# Altium integrated library TI Data Converters Digital to Analog Converter.IntLib: 1533 symbols (part 66 of 99)
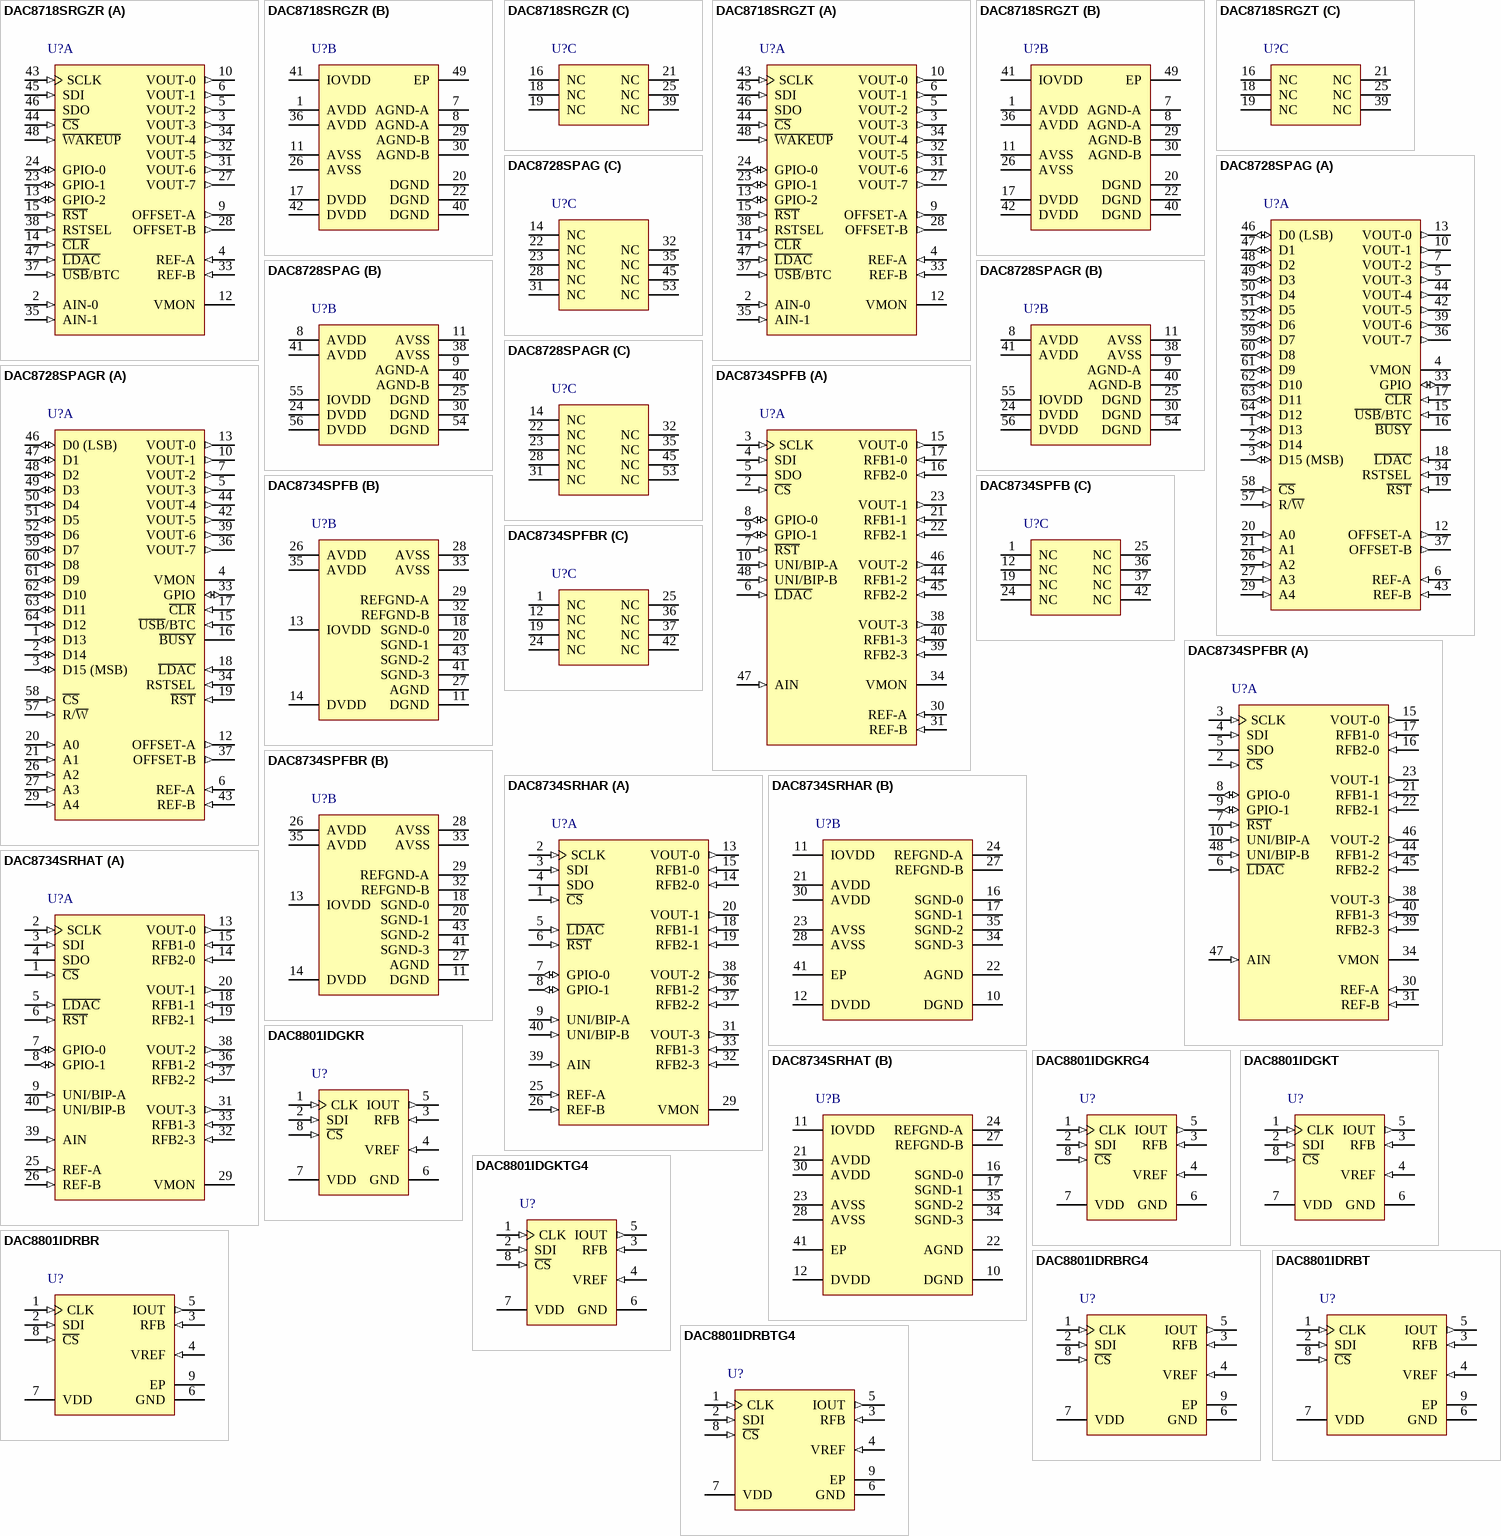
[diagram p138: symbols DAC8718SRGZR to DAC8801IDRBTG4]

## DAC8734SPFBR
designator U?
16-Bit Quad High Accuracy +/- 16.5 V Output DAC, -40 to 105 degC, 48-pin QFP (PFB48), Green (RoHS & no Sb/Br); Manufacturer: Texas Instruments; PartNumber: DAC8734SPFBR; DAC Channels: 4; DNL(Max)(+/-LSB): 1; Interface: Serial SPI; Power Consumption(Typ)(mW): 290; Resolution(Bits): 16; Settling Time(us): 6; SubFamily: Precision DAC (=<10MSPS); DatasheetVersion: SBAS465A; PackageVersion: 4073176/B, 10/1996; PackageReference: PFB48; PackageDescription: 48-Pin Plastic Flat Pack, Body 7 x 7 mm, Pitch 0.5 mm; Supplier 1: Digi-Key; Supplier Part Number 1: DAC8734SPFBR-ND; Supplier 2: Mouser; Supplier Part Number 2: 595-DAC8734SPFBR; Eco-Plan: Green (RoHS & no Sb/Br); INL(Max)(+/-LSB): 1; Mounting Technology: Surface Mount; Code_JEDEC: MS-026; ComponentLink1Description: Manufacturer URL; ComponentLink1URL: http://www.ti.com/; ComponentLink2Description: Datasheet; ComponentLink2URL: http://www.ti.com/general/docs/lit/getliterature.tsp?genericPartNumber=DAC8734&fileType=pdf; ComponentLink3Description: Package Specification; ComponentLink3URL: http://www.ti.com/lit/ml/mtqf019a/mtqf019a.pdf
footprint TI-PFB48_N (QFP, 48-Leads, Body 7x7mm, Pitch 0.5mm, IPC Medium Density)
footprint TI-PFB48_L (QFP, 48-Leads, Body 7x7mm, Pitch 0.5mm, IPC High Density)
footprint TI-PFB48_M (QFP, 48-Leads, Body 7x7mm, Pitch 0.5mm, IPC Low Density)
part A pins: 2 ~{CS} (in) "SPI bus chip select input (active low). Data are not clocked into the SPI shift register unless C\S\ is low. When C\S\ is high, SDO is in a high-impedance state.", 3 SCLK (in) "SPI bus clock", 4 SDI (in) "SPI bus input data", 5 SDO (hiz) "SPI output data", 6 ~{LDAC} (in) "Load DAC latch control input (active low). When L\D\A\C\ is low, the DAC latch is transparent and the contents of the Input Data Register are transferred to it. The DAC output changes to the corresponding level (See Datasheet)", 7 ~{RST} (in) "Reset input (active low). Logic low on this pin resets the input registers and DACs to the values defined by the UNI/BIP pins, and sets the Gain Register and Zero Register to default values.", 8 GPIO-0 (io) "General-purpose digital input/output 0. This pin is a bidirectional, digital input/output, and has an open-drain output. A 10kO pull-up resistor to IOVDD is needed when this pin is used as an output. See the GPIO Pins (See Datasheet)", 9 GPIO-1 (io) "General-purpose digital input/output 1. This pin is a bidirectional, digital input/output, and has an open-drain output. A 10kO pull-up resistor to IOVDD is needed when this pin is used as an output. See the GPIO Pins (See Datasheet)", 10 UNI/BIP-A (in) "Output mode selection of group A (DAC-0 and DAC-1). When UNI/BIP-A is tied to IOVDD, group A is in unipolar output mode; when tied to DGND, group A is in bipolar output mode. The input data written to the DAC are straight (See Datasheet)", 15 VOUT-0 (out) "DAC-0 output", 16 RFB2-0 (in) "DAC-0 RFB2 feedback", 17 RFB1-0 (in) "DAC-0 RFB1 feedback", 21 RFB1-1 (in) "DAC-1 RFB1 feedback", 22 RFB2-1 (in) "DAC-1 RFB2 feedback", 23 VOUT-1 (out) "DAC-1 output", 30 REF-A (in) "Group A (DAC-0, DAC-1) reference input", 31 REF-B (in) "Group B (DAC-2, DAC-3) reference input", 34 VMON (hiz) "Analog monitor output. This pin is either in Hi-Z status, or connected to one of the four DAC outputs or AIN, depending on the content of the Monitor Register.", 38 VOUT-3 (out) "DAC-3 output", 39 RFB2-3 (in) "DAC-3 RFB2 feedback", 40 RFB1-3 (in) "DAC-3 RFB1 feedback", 44 RFB1-2 (in) "DAC-2 RFB1 feedback", 45 RFB2-2 (in) "DAC-2 RFB2 feedback", 46 VOUT-2 (out) "DAC-2 output", 47 AIN (in) "Auxiliary analog input. Connected to the analog monitor mux.", 48 UNI/BIP-B (in) "Output mode selection of group B (DAC-2 and DAC-3). When UNI/BIP-A is tied to IOVDD, group B is in unipolar output mode; when tied to DGND, group B is in bipolar output mode. The input data written to the DAC are straight (See Datasheet)"
part B pins: 11 DGND (power) "Digital ground", 13 IOVDD (power) "Interface power", 14 DVDD (power) "Digital power", 18 SGND-0 (power) "DAC-0 signal ground. Connected to REFGND-A.", 20 SGND-1 (power) "DAC-1 signal ground. Connected to REFGND-A.", 26 AVDD (power) "Positive analog power supply", 27 AGND (power) "Analog ground", 28 AVSS (power) "Negative analog power supply", 29 REFGND-A (power) "Reference REF-A ground. Connect to AGND.", 32 REFGND-B (power) "Reference REF-B ground. Connect to AGND.", 33 AVSS (power) "Negative analog power supply", 35 AVDD (power) "Positive analog power supply", 41 SGND-3 (power) "DAC-3 signal ground. Connected to REFGND-B.", 43 SGND-2 (power) "DAC-2 signal ground. Connected to REFGND-B."
part C pins: 1 NC "Not connected", 12 NC "Not connected", 19 NC "Not connected", 24 NC "Not connected", 25 NC "Not connected", 36 NC "Not connected", 37 NC "Not connected", 42 NC "Not connected"

## DAC8734SRHAR
designator U?
16-Bit Quad High Accuracy +/- 16.5 V Output DAC, -40 to 105 degC, 40-pin QFN (RHA40), Green (RoHS & no Sb/Br); Manufacturer: Texas Instruments; PartNumber: DAC8734SRHAR; DAC Channels: 4; DNL(Max)(+/-LSB): 1; Interface: Serial SPI; Power Consumption(Typ)(mW): 290; Resolution(Bits): 16; Settling Time(us): 6; SubFamily: Precision DAC (=<10MSPS); DatasheetVersion: SBAS465A; PackageVersion: 4204276/E, 06/2011; PackageReference: RHA40-4500X4500TP; PackageDescription: 40-Pin Plastic Quad Flatpack No-Lead, Body 6 x 6 mm, Pitch 0.5 mm; Supplier 1: Digi-Key; Supplier Part Number 1: DAC8734SRHAR-ND; Supplier 2: Mouser; Supplier Part Number 2: 595-DAC8734SRHAR; Eco-Plan: Green (RoHS & no Sb/Br); INL(Max)(+/-LSB): 1; Mounting Technology: Surface Mount; Code_JEDEC: MO-220; ComponentLink1Description: Manufacturer URL; ComponentLink1URL: http://www.ti.com/; ComponentLink2Description: Datasheet; ComponentLink2URL: http://www.ti.com/general/docs/lit/getliterature.tsp?genericPartNumber=DAC8734&fileType=pdf; ComponentLink3Description: Package Specification; ComponentLink3URL: http://www.ti.com/litv/pdf/mpqf135c
footprint TI-RHA40-4500X4500TP_V (QFN, 40-Leads, Body 6x6mm, Pitch 0.5mm, Thermal Pad 4.5x4.5mm)
part A pins: 1 ~{CS} (in) "SPI bus chip select input (active low). Data are not clocked into the SPI shift register unless C\S\ is low. When C\S\ is high, SDO is in a high-impedance state.", 2 SCLK (in) "SPI bus clock", 3 SDI (in) "SPI bus input data", 4 SDO (hiz) "SPI output data", 5 ~{LDAC} (in) "Load DAC latch control input (active low). When L\D\A\C\ is low, the DAC latch is transparent and the contents of the Input Data Register are transferred to it. The DAC output changes to the corresponding level (See Datasheet)", 6 ~{RST} (in) "Reset input (active low). Logic low on this pin resets the input registers and DACs to the values defined by the UNI/BIP pins, and sets the Gain Register and Zero Register to default values.", 7 GPIO-0 (io) "General-purpose digital input/output 0. This pin is a bidirectional, digital input/output, and has an open-drain output. A 10kohm pull-up resistor to IOVDD is needed when this pin is used as an output. See the GPIO Pins (See Datasheet)", 8 GPIO-1 (io) "General-purpose digital input/output 1. This pin is a bidirectional, digital input/output, and has an open-drain output. A 10kohm pull-up resistor to IOVDD is needed when this pin is used as an output. See the GPIO Pins (See Datasheet)", 9 UNI/BIP-A (in) "Output mode selection of group A (DAC-0 and DAC-1). When UNI/BIP-A is tied to IOVDD, group A is in unipolar output mode; when tied to DGND, group A is in bipolar output mode. The input data written to the DAC are straight (See Datasheet)", 13 VOUT-0 (out) "DAC-0 output", 14 RFB2-0 (in) "DAC-0 RFB2 feedback", 15 RFB1-0 (in) "DAC-0 RFB1 feedback", 18 RFB1-1 (in) "DAC-1 RFB1 feedback", 19 RFB2-1 (in) "DAC-1 RFB2 feedback", 20 VOUT-1 (out) "DAC-1 output", 25 REF-A (in) "Group A (DAC-0, DAC-1) reference input", 26 REF-B (in) "Group B (DAC-2, DAC-3) reference input", 29 VMON (hiz) "Analog monitor output. This pin is either in Hi-Z status, or connected to one of the four DAC outputs or AIN, depending on the content of the Monitor Register.", 31 VOUT-3 (out) "DAC-3 output", 32 RFB2-3 (in) "DAC-3 RFB2 feedback", 33 RFB1-3 (in) "DAC-3 RFB1 feedback", 36 RFB1-2 (in) "DAC-2 RFB1 feedback", 37 RFB2-2 (in) "DAC-2 RFB2 feedback", 38 VOUT-2 (out) "DAC-2 output", 39 AIN (in) "Auxiliary analog input. Connected to the analog monitor mux.", 40 UNI/BIP-B (in) "Output mode selection of group B (DAC-2 and DAC-3). When UNI/BIP-A is tied to IOVDD, group B is in unipolar output mode; when tied to DGND, group B is in bipolar output mode. The input data written to the DAC are straight (See Datasheet)"
part B pins: 10 DGND (power) "Digital ground", 11 IOVDD (power) "Interface power", 12 DVDD (power) "Digital power", 16 SGND-0 (power) "DAC-0 signal ground. Connected to REFGND-A.", 17 SGND-1 (power) "DAC-1 signal ground. Connected to REFGND-A.", 21 AVDD (power) "Positive analog power supply", 22 AGND (power) "Analog ground", 23 AVSS (power) "Negative analog power supply", 24 REFGND-A (power) "Reference REF-A ground. Connect to AGND.", 27 REFGND-B (power) "Reference REF-B ground. Connect to AGND.", 28 AVSS (power) "Negative analog power supply", 30 AVDD (power) "Positive analog power supply", 34 SGND-3 (power) "DAC-3 signal ground. Connected to REFGND-B.", 35 SGND-2 (power) "DAC-2 signal ground. Connected to REFGND-B.", 41 EP (power)

## DAC8734SRHAT
designator U?
16-Bit Quad High Accuracy +/- 16.5 V Output DAC, -40 to 105 degC, 40-pin QFN (RHA40), Green (RoHS & no Sb/Br); Manufacturer: Texas Instruments; PartNumber: DAC8734SRHAT; DAC Channels: 4; DNL(Max)(+/-LSB): 1; Interface: Serial SPI; Power Consumption(Typ)(mW): 290; Resolution(Bits): 16; Settling Time(us): 6; SubFamily: Precision DAC (=<10MSPS); DatasheetVersion: SBAS465A; PackageVersion: 4204276/E, 06/2011; PackageReference: RHA40-4500X4500TP; PackageDescription: 40-Pin Plastic Quad Flatpack No-Lead, Body 6 x 6 mm, Pitch 0.5 mm; Supplier 1: Digi-Key; Supplier Part Number 1: 296-25118-2-ND; Supplier 2: Digi-Key; Supplier Part Number 2: 296-25118-1-ND; Supplier 3: Digi-Key; Supplier Part Number 3: 296-25118-6-ND; Supplier 4: Mouser; Supplier Part Number 4: 595-DAC8734SRHAT; Eco-Plan: Green (RoHS & no Sb/Br); INL(Max)(+/-LSB): 1; Mounting Technology: Surface Mount; Code_JEDEC: MO-220; ComponentLink1Description: Manufacturer URL; ComponentLink1URL: http://www.ti.com/; ComponentLink2Description: Datasheet; ComponentLink2URL: http://www.ti.com/general/docs/lit/getliterature.tsp?genericPartNumber=DAC8734&fileType=pdf; ComponentLink3Description: Package Specification; ComponentLink3URL: http://www.ti.com/litv/pdf/mpqf135c
footprint TI-RHA40-4500X4500TP_V (QFN, 40-Leads, Body 6x6mm, Pitch 0.5mm, Thermal Pad 4.5x4.5mm)
part A pins: 1 ~{CS} (in) "SPI bus chip select input (active low). Data are not clocked into the SPI shift register unless C\S\ is low. When C\S\ is high, SDO is in a high-impedance state.", 2 SCLK (in) "SPI bus clock", 3 SDI (in) "SPI bus input data", 4 SDO (hiz) "SPI output data", 5 ~{LDAC} (in) "Load DAC latch control input (active low). When L\D\A\C\ is low, the DAC latch is transparent and the contents of the Input Data Register are transferred to it. The DAC output changes to the corresponding level (See Datasheet)", 6 ~{RST} (in) "Reset input (active low). Logic low on this pin resets the input registers and DACs to the values defined by the UNI/BIP pins, and sets the Gain Register and Zero Register to default values.", 7 GPIO-0 (io) "General-purpose digital input/output 0. This pin is a bidirectional, digital input/output, and has an open-drain output. A 10kohm pull-up resistor to IOVDD is needed when this pin is used as an output. See the GPIO Pins (See Datasheet)", 8 GPIO-1 (io) "General-purpose digital input/output 1. This pin is a bidirectional, digital input/output, and has an open-drain output. A 10kohm pull-up resistor to IOVDD is needed when this pin is used as an output. See the GPIO Pins (See Datasheet)", 9 UNI/BIP-A (in) "Output mode selection of group A (DAC-0 and DAC-1). When UNI/BIP-A is tied to IOVDD, group A is in unipolar output mode; when tied to DGND, group A is in bipolar output mode. The input data written to the DAC are straight (See Datasheet)", 13 VOUT-0 (out) "DAC-0 output", 14 RFB2-0 (in) "DAC-0 RFB2 feedback", 15 RFB1-0 (in) "DAC-0 RFB1 feedback", 18 RFB1-1 (in) "DAC-1 RFB1 feedback", 19 RFB2-1 (in) "DAC-1 RFB2 feedback", 20 VOUT-1 (out) "DAC-1 output", 25 REF-A (in) "Group A (DAC-0, DAC-1) reference input", 26 REF-B (in) "Group B (DAC-2, DAC-3) reference input", 29 VMON (hiz) "Analog monitor output. This pin is either in Hi-Z status, or connected to one of the four DAC outputs or AIN, depending on the content of the Monitor Register.", 31 VOUT-3 (out) "DAC-3 output", 32 RFB2-3 (in) "DAC-3 RFB2 feedback", 33 RFB1-3 (in) "DAC-3 RFB1 feedback", 36 RFB1-2 (in) "DAC-2 RFB1 feedback", 37 RFB2-2 (in) "DAC-2 RFB2 feedback", 38 VOUT-2 (out) "DAC-2 output", 39 AIN (in) "Auxiliary analog input. Connected to the analog monitor mux.", 40 UNI/BIP-B (in) "Output mode selection of group B (DAC-2 and DAC-3). When UNI/BIP-A is tied to IOVDD, group B is in unipolar output mode; when tied to DGND, group B is in bipolar output mode. The input data written to the DAC are straight (See Datasheet)"
part B pins: 10 DGND (power) "Digital ground", 11 IOVDD (power) "Interface power", 12 DVDD (power) "Digital power", 16 SGND-0 (power) "DAC-0 signal ground. Connected to REFGND-A.", 17 SGND-1 (power) "DAC-1 signal ground. Connected to REFGND-A.", 21 AVDD (power) "Positive analog power supply", 22 AGND (power) "Analog ground", 23 AVSS (power) "Negative analog power supply", 24 REFGND-A (power) "Reference REF-A ground. Connect to AGND.", 27 REFGND-B (power) "Reference REF-B ground. Connect to AGND.", 28 AVSS (power) "Negative analog power supply", 30 AVDD (power) "Positive analog power supply", 34 SGND-3 (power) "DAC-3 signal ground. Connected to REFGND-B.", 35 SGND-2 (power) "DAC-2 signal ground. Connected to REFGND-B.", 41 EP (power)

## DAC8801IDGKR
designator U?
14-Bit, Single Channel, Serial Interface, Multiplying DAC, -40 to 85 degC, 8-pin SOP (DGK8), Green (RoHS & no Sb/Br); Manufacturer: Texas Instruments; PartNumber: DAC8801IDGKR; DAC Channels: 1; DNL(Max)(+/-LSB): 0.5; Interface: Serial SPI; Power Consumption(Typ)(mW): 0.025; Resolution(Bits): 14; SubFamily: Precision DAC (=<10MSPS); DatasheetVersion: SLAS403B; PackageVersion: 4073329/E, 05/2006; PackageReference: DGK8; PackageDescription: 8-Pin Thin Small Outline, Body 3 x 3 mm, Pitch 0.65 mm; Supplier 1: Digi-Key; Supplier Part Number 1: DAC8801IDGKR-ND; Supplier 2: Newark; Supplier Part Number 2: 73J8223; Supplier 3: Mouser; Supplier Part Number 3: 595-DAC8801IDGKR; Eco-Plan: Green (RoHS & no Sb/Br); INL(Max)(+/-LSB): 1; Settling Time(us): 0.5; Mounting Technology: Surface Mount; Code_JEDEC: MO-187; ComponentLink1Description: Manufacturer URL; ComponentLink1URL: http://www.ti.com/; ComponentLink2Description: Datasheet; ComponentLink2URL: http://www.ti.com/general/docs/lit/getliterature.tsp?genericPartNumber=DAC8801&fileType=pdf; ComponentLink3Description: Package Specification; ComponentLink3URL: http://www.ti.com/litv/pdf/mpds028d
footprint TI-DGK8_N (SOP, 8-Leads, Body 3x3mm, Pitch 0.65mm, IPC Medium Density)
footprint TI-DGK8_L (SOP, 8-Leads, Body 3x3mm, Pitch 0.65mm, IPC High Density)
footprint TI-DGK8_M (SOP, 8-Leads, Body 3x3mm, Pitch 0.65mm, IPC Low Density)
pins: 1 CLK (in) "Clock input, positive edge triggered clocks data into shift register", 2 SDI (in) "Serial register input, data loads directly into the shift register MSB first. Extra leading bits are ignored", 3 RFB (in) "Internal matching feedback resistor. Connect to external op amp output.", 4 VREF (in) "DAC reference input pin. Establishes DAC full-scale voltage. Constant input resistance versus code", 5 IOUT (out) "DAC current output. Connects to inverting terminal of external precision I to V op amp.", 6 GND (power) "Analog and digital ground", 7 VDD (power) "Posiitve power supply input. Specified range of operation 2.7 V to 5.5 V", 8 ~{CS} (in) "Chip select, active low digital input. Transfers shift register data to DAC register on rising edge."

## DAC8801IDGKRG4
designator U?
14-Bit, Single Channel, Serial Interface, Multiplying DAC, -40 to 85 degC, 8-pin SOP (DGK8), Green (RoHS & no Sb/Br); Manufacturer: Texas Instruments; PartNumber: DAC8801IDGKRG4; DAC Channels: 1; DNL(Max)(+/-LSB): 0.5; Interface: Serial SPI; Power Consumption(Typ)(mW): 0.025; Resolution(Bits): 14; SubFamily: Precision DAC (=<10MSPS); DatasheetVersion: SLAS403B; PackageVersion: 4073329/E, 05/2006; PackageReference: DGK8; PackageDescription: 8-Pin Thin Small Outline, Body 3 x 3 mm, Pitch 0.65 mm; Supplier 1: Digi-Key; Supplier Part Number 1: DAC8801IDGKRG4-ND; Supplier 2: Mouser; Supplier Part Number 2: 595-DAC8801IDGKRG4; Eco-Plan: Green (RoHS & no Sb/Br); INL(Max)(+/-LSB): 1; Settling Time(us): 0.5; Mounting Technology: Surface Mount; Code_JEDEC: MO-187; ComponentLink1Description: Manufacturer URL; ComponentLink1URL: http://www.ti.com/; ComponentLink2Description: Datasheet; ComponentLink2URL: http://www.ti.com/general/docs/lit/getliterature.tsp?genericPartNumber=DAC8801&fileType=pdf; ComponentLink3Description: Package Specification; ComponentLink3URL: http://www.ti.com/litv/pdf/mpds028d
footprint TI-DGK8_N (SOP, 8-Leads, Body 3x3mm, Pitch 0.65mm, IPC Medium Density)
footprint TI-DGK8_L (SOP, 8-Leads, Body 3x3mm, Pitch 0.65mm, IPC High Density)
footprint TI-DGK8_M (SOP, 8-Leads, Body 3x3mm, Pitch 0.65mm, IPC Low Density)
pins: 1 CLK (in) "Clock input, positive edge triggered clocks data into shift register", 2 SDI (in) "Serial register input, data loads directly into the shift register MSB first. Extra leading bits are ignored", 3 RFB (in) "Internal matching feedback resistor. Connect to external op amp output.", 4 VREF (in) "DAC reference input pin. Establishes DAC full-scale voltage. Constant input resistance versus code", 5 IOUT (out) "DAC current output. Connects to inverting terminal of external precision I to V op amp.", 6 GND (power) "Analog and digital ground", 7 VDD (power) "Posiitve power supply input. Specified range of operation 2.7 V to 5.5 V", 8 ~{CS} (in) "Chip select, active low digital input. Transfers shift register data to DAC register on rising edge."

## DAC8801IDGKT
designator U?
14-Bit, Single Channel, Serial Interface, Multiplying DAC, -40 to 85 degC, 8-pin SOP (DGK8), Green (RoHS & no Sb/Br); Manufacturer: Texas Instruments; PartNumber: DAC8801IDGKT; DAC Channels: 1; DNL(Max)(+/-LSB): 0.5; Interface: Serial SPI; Power Consumption(Typ)(mW): 0.025; Resolution(Bits): 14; SubFamily: Precision DAC (=<10MSPS); DatasheetVersion: SLAS403B; PackageVersion: 4073329/E, 05/2006; PackageReference: DGK8; PackageDescription: 8-Pin Thin Small Outline, Body 3 x 3 mm, Pitch 0.65 mm; Supplier 1: Digi-Key; Supplier Part Number 1: 296-17641-2-ND; Supplier 2: Digi-Key; Supplier Part Number 2: 296-17641-1-ND; Supplier 3: Digi-Key; Supplier Part Number 3: 296-17641-6-ND; Supplier 4: Newark; Supplier Part Number 4: 73J8224; Supplier 5: Mouser; Supplier Part Number 5: 595-DAC8801IDGKT; Eco-Plan: Green (RoHS & no Sb/Br); INL(Max)(+/-LSB): 1; Settling Time(us): 0.5; Mounting Technology: Surface Mount; Code_JEDEC: MO-187; ComponentLink1Description: Manufacturer URL; ComponentLink1URL: http://www.ti.com/; ComponentLink2Description: Datasheet; ComponentLink2URL: http://www.ti.com/general/docs/lit/getliterature.tsp?genericPartNumber=DAC8801&fileType=pdf; ComponentLink3Description: Package Specification; ComponentLink3URL: http://www.ti.com/litv/pdf/mpds028d
footprint TI-DGK8_N (SOP, 8-Leads, Body 3x3mm, Pitch 0.65mm, IPC Medium Density)
footprint TI-DGK8_L (SOP, 8-Leads, Body 3x3mm, Pitch 0.65mm, IPC High Density)
footprint TI-DGK8_M (SOP, 8-Leads, Body 3x3mm, Pitch 0.65mm, IPC Low Density)
pins: 1 CLK (in) "Clock input, positive edge triggered clocks data into shift register", 2 SDI (in) "Serial register input, data loads directly into the shift register MSB first. Extra leading bits are ignored", 3 RFB (in) "Internal matching feedback resistor. Connect to external op amp output.", 4 VREF (in) "DAC reference input pin. Establishes DAC full-scale voltage. Constant input resistance versus code", 5 IOUT (out) "DAC current output. Connects to inverting terminal of external precision I to V op amp.", 6 GND (power) "Analog and digital ground", 7 VDD (power) "Posiitve power supply input. Specified range of operation 2.7 V to 5.5 V", 8 ~{CS} (in) "Chip select, active low digital input. Transfers shift register data to DAC register on rising edge."

## DAC8801IDGKTG4
designator U?
14-Bit, Single Channel, Serial Interface, Multiplying DAC, -40 to 85 degC, 8-pin SOP (DGK8), Green (RoHS & no Sb/Br); Manufacturer: Texas Instruments; PartNumber: DAC8801IDGKTG4; DAC Channels: 1; DNL(Max)(+/-LSB): 0.5; Interface: Serial SPI; Power Consumption(Typ)(mW): 0.025; Resolution(Bits): 14; SubFamily: Precision DAC (=<10MSPS); DatasheetVersion: SLAS403B; PackageVersion: 4073329/E, 05/2006; PackageReference: DGK8; PackageDescription: 8-Pin Thin Small Outline, Body 3 x 3 mm, Pitch 0.65 mm; Supplier 1: Digi-Key; Supplier Part Number 1: DAC8801IDGKTG4-ND; Supplier 2: Mouser; Supplier Part Number 2: 595-DAC8801IDGKTG4; Eco-Plan: Green (RoHS & no Sb/Br); INL(Max)(+/-LSB): 1; Settling Time(us): 0.5; Mounting Technology: Surface Mount; Code_JEDEC: MO-187; ComponentLink1Description: Manufacturer URL; ComponentLink1URL: http://www.ti.com/; ComponentLink2Description: Datasheet; ComponentLink2URL: http://www.ti.com/general/docs/lit/getliterature.tsp?genericPartNumber=DAC8801&fileType=pdf; ComponentLink3Description: Package Specification; ComponentLink3URL: http://www.ti.com/litv/pdf/mpds028d
footprint TI-DGK8_N (SOP, 8-Leads, Body 3x3mm, Pitch 0.65mm, IPC Medium Density)
footprint TI-DGK8_L (SOP, 8-Leads, Body 3x3mm, Pitch 0.65mm, IPC High Density)
footprint TI-DGK8_M (SOP, 8-Leads, Body 3x3mm, Pitch 0.65mm, IPC Low Density)
pins: 1 CLK (in) "Clock input, positive edge triggered clocks data into shift register", 2 SDI (in) "Serial register input, data loads directly into the shift register MSB first. Extra leading bits are ignored", 3 RFB (in) "Internal matching feedback resistor. Connect to external op amp output.", 4 VREF (in) "DAC reference input pin. Establishes DAC full-scale voltage. Constant input resistance versus code", 5 IOUT (out) "DAC current output. Connects to inverting terminal of external precision I to V op amp.", 6 GND (power) "Analog and digital ground", 7 VDD (power) "Posiitve power supply input. Specified range of operation 2.7 V to 5.5 V", 8 ~{CS} (in) "Chip select, active low digital input. Transfers shift register data to DAC register on rising edge."

## DAC8801IDRBR
designator U?
14-Bit, Single Channel, Serial Interface, Multiplying DAC, -40 to 85 degC, 8-pin SON (DRB8), Green (RoHS & no Sb/Br); Manufacturer: Texas Instruments; PartNumber: DAC8801IDRBR; DAC Channels: 1; DNL(Max)(+/-LSB): 0.5; Interface: Serial SPI; Power Consumption(Typ)(mW): 0.025; Resolution(Bits): 14; SubFamily: Precision DAC (=<10MSPS); DatasheetVersion: SLAS403B; PackageVersion: 4203482-2/K, 06/2012; PackageReference: DRB8-1750X1500TP; PackageDescription: 8-Pin Plastic Small Outline, Body 3 x 3 mm, Pitch 0.65 mm; Supplier 1: Digi-Key; Supplier Part Number 1: DAC8801IDRBR-ND; Supplier 2: Mouser; Supplier Part Number 2: 595-DAC8801IDRBR; Eco-Plan: Green (RoHS & no Sb/Br); INL(Max)(+/-LSB): 1; Settling Time(us): 0.5; Mounting Technology: Surface Mount; ComponentLink1Description: Manufacturer URL; ComponentLink1URL: http://www.ti.com/; ComponentLink2Description: Datasheet; ComponentLink2URL: http://www.ti.com/general/docs/lit/getliterature.tsp?genericPartNumber=DAC8801&fileType=pdf; ComponentLink3Description: Package Specification; ComponentLink3URL: http://www.ti.com/litv/pdf/mpds118h
footprint TI-DRB8-1750X1500TP_V (SON, 8-Leads, Body 3x3mm, Pitch 0.65mm, Thermal Pad 1.50 x 3.8mm)
pins: 1 CLK (in) "Clock input, positive edge triggered clocks data into shift register", 2 SDI (in) "Serial register input, data loads directly into the shift register MSB first. Extra leading bits are ignored", 3 RFB (in) "Internal matching feedback resistor. Connect to external op amp output.", 4 VREF (in) "DAC reference input pin. Establishes DAC full-scale voltage. Constant input resistance versus code", 5 IOUT (out) "DAC current output. Connects to inverting terminal of external precision I to V op amp.", 6 GND (power) "Analog and digital ground", 7 VDD (power) "Posiitve power supply input. Specified range of operation 2.7 V to 5.5 V", 8 ~{CS} (in) "Chip select, active low digital input. Transfers shift register data to DAC register on rising edge.", 9 EP

## DAC8801IDRBRG4
designator U?
14-Bit, Single Channel, Serial Interface, Multiplying DAC, -40 to 85 degC, 8-pin SON (DRB8), Green (RoHS & no Sb/Br); Manufacturer: Texas Instruments; PartNumber: DAC8801IDRBRG4; DAC Channels: 1; DNL(Max)(+/-LSB): 0.5; Interface: Serial SPI; Power Consumption(Typ)(mW): 0.025; Resolution(Bits): 14; SubFamily: Precision DAC (=<10MSPS); DatasheetVersion: SLAS403B; PackageVersion: 4203482-2/K, 06/2012; PackageReference: DRB8-1750X1500TP; PackageDescription: 8-Pin Plastic Small Outline, Body 3 x 3 mm, Pitch 0.65 mm; Supplier 1: Digi-Key; Supplier Part Number 1: DAC8801IDRBRG4-ND; Supplier 2: Mouser; Supplier Part Number 2: 595-DAC8801IDRBRG4; Eco-Plan: Green (RoHS & no Sb/Br); INL(Max)(+/-LSB): 1; Settling Time(us): 0.5; Mounting Technology: Surface Mount; ComponentLink1Description: Manufacturer URL; ComponentLink1URL: http://www.ti.com/; ComponentLink2Description: Datasheet; ComponentLink2URL: http://www.ti.com/general/docs/lit/getliterature.tsp?genericPartNumber=DAC8801&fileType=pdf; ComponentLink3Description: Package Specification; ComponentLink3URL: http://www.ti.com/litv/pdf/mpds118h
footprint TI-DRB8-1750X1500TP_V (SON, 8-Leads, Body 3x3mm, Pitch 0.65mm, Thermal Pad 1.50 x 3.8mm)
pins: 1 CLK (in) "Clock input, positive edge triggered clocks data into shift register", 2 SDI (in) "Serial register input, data loads directly into the shift register MSB first. Extra leading bits are ignored", 3 RFB (in) "Internal matching feedback resistor. Connect to external op amp output.", 4 VREF (in) "DAC reference input pin. Establishes DAC full-scale voltage. Constant input resistance versus code", 5 IOUT (out) "DAC current output. Connects to inverting terminal of external precision I to V op amp.", 6 GND (power) "Analog and digital ground", 7 VDD (power) "Posiitve power supply input. Specified range of operation 2.7 V to 5.5 V", 8 ~{CS} (in) "Chip select, active low digital input. Transfers shift register data to DAC register on rising edge.", 9 EP

## DAC8801IDRBT
designator U?
14-Bit, Single Channel, Serial Interface, Multiplying DAC, -40 to 85 degC, 8-pin SON (DRB8), Green (RoHS & no Sb/Br); Manufacturer: Texas Instruments; PartNumber: DAC8801IDRBT; DAC Channels: 1; DNL(Max)(+/-LSB): 0.5; Interface: Serial SPI; Power Consumption(Typ)(mW): 0.025; Resolution(Bits): 14; SubFamily: Precision DAC (=<10MSPS); DatasheetVersion: SLAS403B; PackageVersion: 4203482-2/K, 06/2012; PackageReference: DRB8-1750X1500TP; PackageDescription: 8-Pin Plastic Small Outline, Body 3 x 3 mm, Pitch 0.65 mm; Supplier 1: Digi-Key; Supplier Part Number 1: 296-17642-2-ND; Supplier 2: Digi-Key; Supplier Part Number 2: 296-17642-1-ND; Supplier 3: Digi-Key; Supplier Part Number 3: 296-17642-6-ND; Supplier 4: Newark; Supplier Part Number 4: 73J8226; Supplier 5: Mouser; Supplier Part Number 5: 595-DAC8801IDRBT; Eco-Plan: Green (RoHS & no Sb/Br); INL(Max)(+/-LSB): 1; Settling Time(us): 0.5; Mounting Technology: Surface Mount; ComponentLink1Description: Manufacturer URL; ComponentLink1URL: http://www.ti.com/; ComponentLink2Description: Datasheet; ComponentLink2URL: http://www.ti.com/general/docs/lit/getliterature.tsp?genericPartNumber=DAC8801&fileType=pdf; ComponentLink3Description: Package Specification; ComponentLink3URL: http://www.ti.com/litv/pdf/mpds118h
footprint TI-DRB8-1750X1500TP_V (SON, 8-Leads, Body 3x3mm, Pitch 0.65mm, Thermal Pad 1.50 x 3.8mm)
pins: 1 CLK (in) "Clock input, positive edge triggered clocks data into shift register", 2 SDI (in) "Serial register input, data loads directly into the shift register MSB first. Extra leading bits are ignored", 3 RFB (in) "Internal matching feedback resistor. Connect to external op amp output.", 4 VREF (in) "DAC reference input pin. Establishes DAC full-scale voltage. Constant input resistance versus code", 5 IOUT (out) "DAC current output. Connects to inverting terminal of external precision I to V op amp.", 6 GND (power) "Analog and digital ground", 7 VDD (power) "Posiitve power supply input. Specified range of operation 2.7 V to 5.5 V", 8 ~{CS} (in) "Chip select, active low digital input. Transfers shift register data to DAC register on rising edge.", 9 EP

## DAC8801IDRBTG4
designator U?
14-Bit, Single Channel, Serial Interface, Multiplying DAC, -40 to 85 degC, 8-pin SON (DRB8), Green (RoHS & no Sb/Br); Manufacturer: Texas Instruments; PartNumber: DAC8801IDRBTG4; DAC Channels: 1; DNL(Max)(+/-LSB): 0.5; Interface: Serial SPI; Power Consumption(Typ)(mW): 0.025; Resolution(Bits): 14; SubFamily: Precision DAC (=<10MSPS); DatasheetVersion: SLAS403B; PackageVersion: 4203482-2/K, 06/2012; PackageReference: DRB8-1750X1500TP; PackageDescription: 8-Pin Plastic Small Outline, Body 3 x 3 mm, Pitch 0.65 mm; Supplier 1: Digi-Key; Supplier Part Number 1: DAC8801IDRBTG4-ND; Supplier 2: Mouser; Supplier Part Number 2: 595-DAC8801IDRBTG4; Eco-Plan: Green (RoHS & no Sb/Br); INL(Max)(+/-LSB): 1; Settling Time(us): 0.5; Mounting Technology: Surface Mount; ComponentLink1Description: Manufacturer URL; ComponentLink1URL: http://www.ti.com/; ComponentLink2Description: Datasheet; ComponentLink2URL: http://www.ti.com/general/docs/lit/getliterature.tsp?genericPartNumber=DAC8801&fileType=pdf; ComponentLink3Description: Package Specification; ComponentLink3URL: http://www.ti.com/litv/pdf/mpds118h
footprint TI-DRB8-1750X1500TP_V (SON, 8-Leads, Body 3x3mm, Pitch 0.65mm, Thermal Pad 1.50 x 3.8mm)
pins: 1 CLK (in) "Clock input, positive edge triggered clocks data into shift register", 2 SDI (in) "Serial register input, data loads directly into the shift register MSB first. Extra leading bits are ignored", 3 RFB (in) "Internal matching feedback resistor. Connect to external op amp output.", 4 VREF (in) "DAC reference input pin. Establishes DAC full-scale voltage. Constant input resistance versus code", 5 IOUT (out) "DAC current output. Connects to inverting terminal of external precision I to V op amp.", 6 GND (power) "Analog and digital ground", 7 VDD (power) "Posiitve power supply input. Specified range of operation 2.7 V to 5.5 V", 8 ~{CS} (in) "Chip select, active low digital input. Transfers shift register data to DAC register on rising edge.", 9 EP

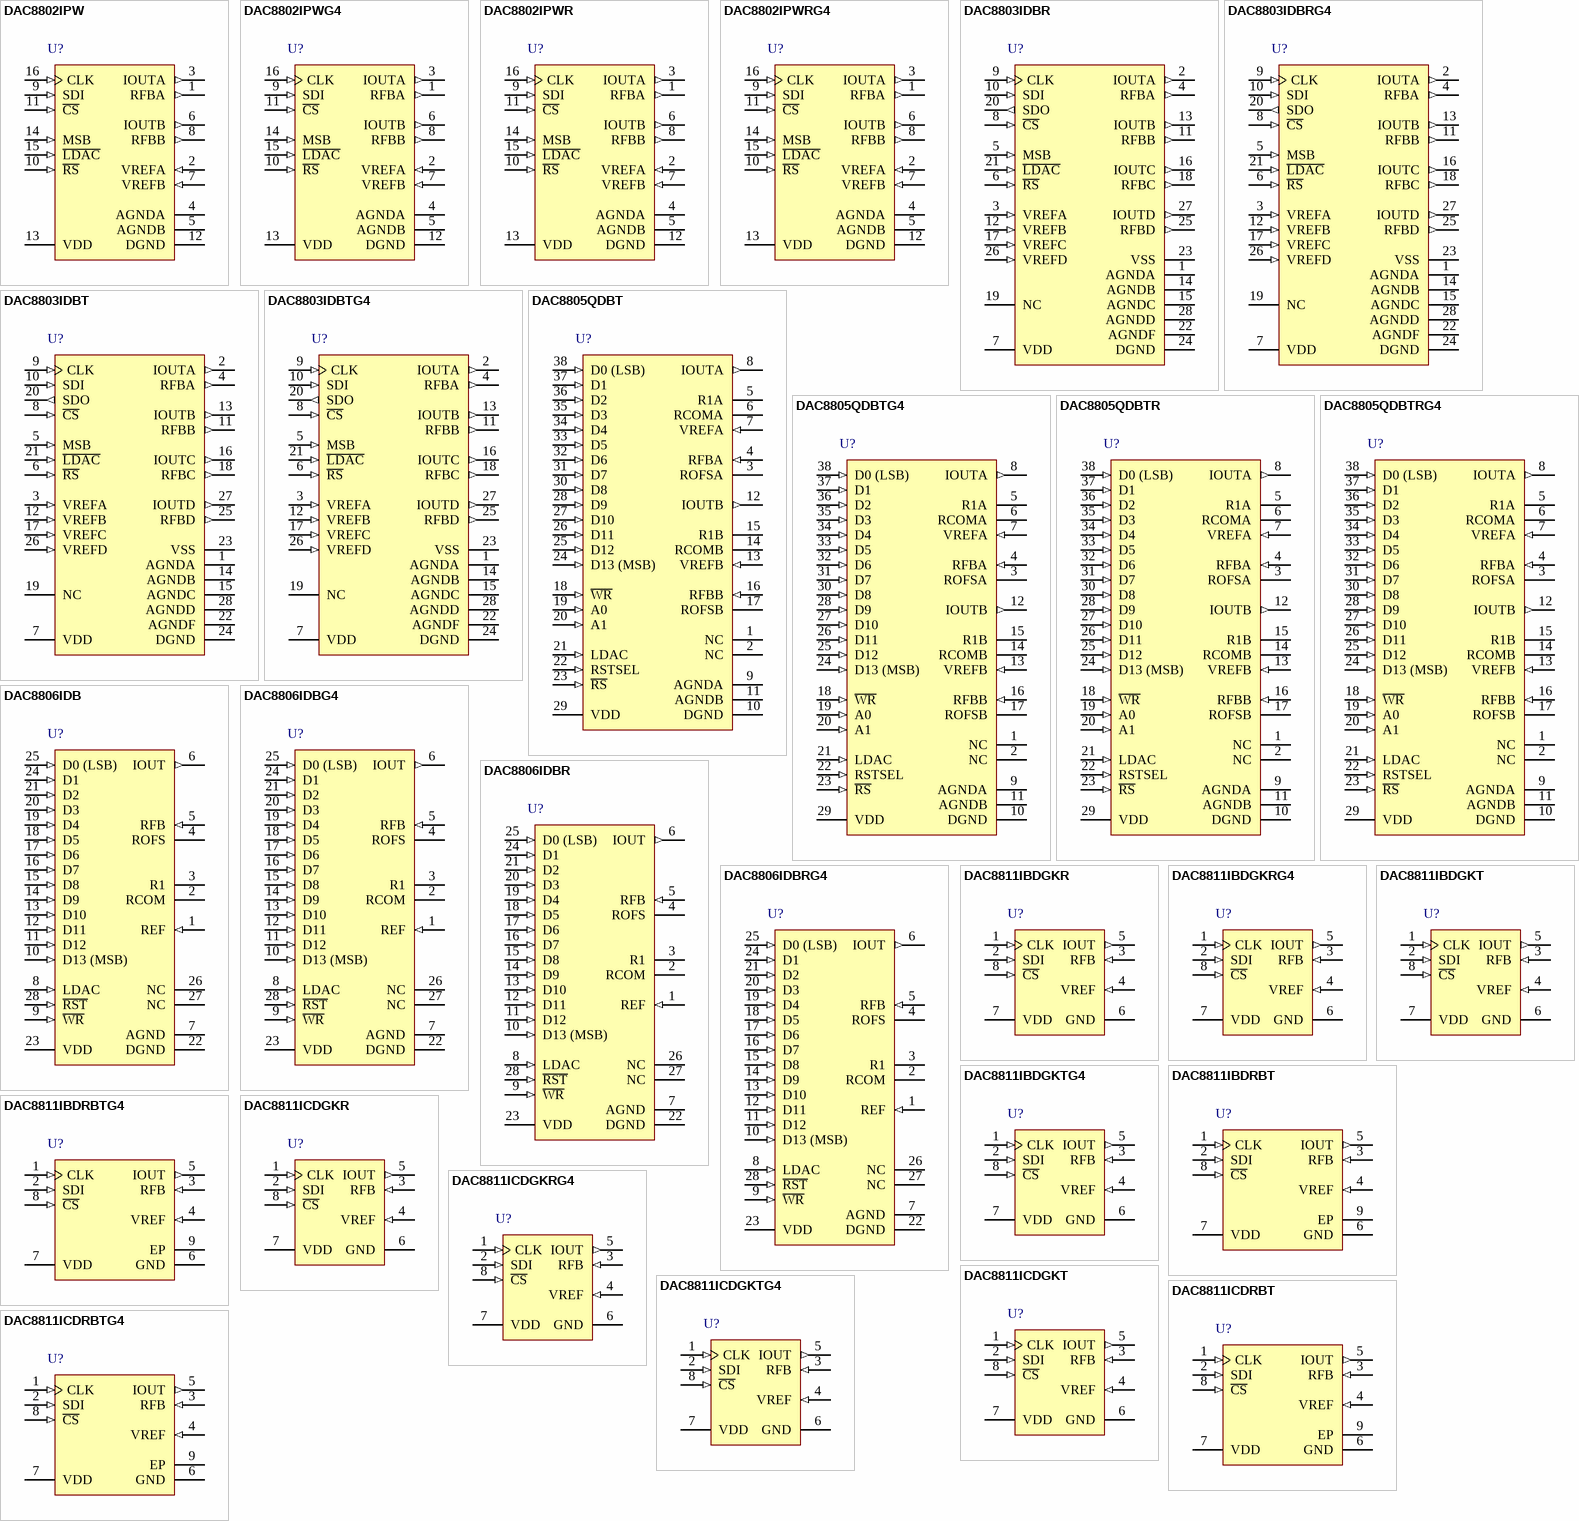
[diagram p51: symbols DAC8802IPW to DAC8811ICDRBTG4]

## DAC8802IPW
designator U?
14-Bit, Dual Channel, Serial Interface, Multiplying DAC, -40 to 85 degC, 16-pin SOP (PW16), Green (RoHS & no Sb/Br); Manufacturer: Texas Instruments; PartNumber: DAC8802IPW; DAC Channels: 2; DNL(Max)(+/-LSB): 1; Interface: Serial SPI; Power Consumption(Typ)(mW): 0.025; Resolution(Bits): 14; Settling Time(us): 0.5; SubFamily: Precision DAC (=<10MSPS); DatasheetVersion: SBAS351B; PackageVersion: 4040064-4/G, 02/2011; PackageReference: PW16; PackageDescription: 16-Pin Plastic Small Outline, Body 5 x 4.4 mm, Pitch 0.65 mm; Supplier 1: Digi-Key; Supplier Part Number 1: 296-19405-5-ND; Supplier 2: Newark; Supplier Part Number 2: 71K2662; Supplier 3: Mouser; Supplier Part Number 3: 595-DAC8802IPW; Eco-Plan: Green (RoHS & no Sb/Br); INL(Max)(+/-LSB): 1; Mounting Technology: Surface Mount; Code_JEDEC: MO-153; ComponentLink1Description: Manufacturer URL; ComponentLink1URL: http://www.ti.com/; ComponentLink2Description: Datasheet; ComponentLink2URL: http://www.ti.com/general/docs/lit/getliterature.tsp?genericPartNumber=DAC8802&fileType=pdf; ComponentLink3Description: Package Specification; ComponentLink3URL: http://www.ti.com/lit/ml/mpds361/mpds361.pdf
footprint TI-PW16_N (SOP, 16-Leads, Body 5x4.4mm, Pitch 0.65mm, IPC Medium Density)
footprint TI-PW16_L (SOP, 16-Leads, Body 5x4.4mm, Pitch 0.65mm, IPC High Density)
footprint TI-PW16_M (SOP, 16-Leads, Body 5x4.4mm, Pitch 0.65mm, IPC Low Density)
pins: 1 RFBA (out) "Establish voltage output for DAC A by connecting to external amplifier output.", 2 VREFA (in) "DAC A Reference voltage input terminal. Establishes DAC A full-scale output voltage. Can be tied to VDD pin.", 3 IOUTA (out) "DAC A Current output.", 4 AGNDA (power) "DAC A Analog ground.", 5 AGNDB (power) "DAC B Analog ground.", 6 IOUTB (out) "DAC B Current output.", 7 VREFB (in) "DAC B Reference voltage input terminal. Establishes DAC B full-scale output voltage. Can be tied to VDD pin.", 8 RFBB (out) "Establish voltage output for DAC B by connecting to external amplifier output.", 9 SDI (in) "Serial data input; data loads directly into the shift register.", 10 ~{RS} (in) "Reset pin; active low input. Input registers and DAC registers are set to all 0s or midscale. Register data = 0x0000 when MSB = 0. Register data = 0x8000 when MSB = 1 for DAC8802.", 11 ~{CS} (in) "Chip-select; active low input. Disables shift register loading when high. Transfers serial register data to input register when C\S\ goes high. Does not affect L\D\A\C\ operation.", 12 DGND (power) "Digital ground.", 13 VDD (power) "Positive power-supply input. Specified range of operation 2.7 V to 5.5 V.", 14 MSB (in) "MSB bit sets output to either 0 or midscale during a RESET pulse (R\S\) or at system power-on. Output equals zero scale when MSB = 0 and midscale when MSB = 1. MSB pin can be permanently tied to ground or VDD.", 15 ~{LDAC} (in) "Load DAC register strobe; level sensitive active low. Transfers all input register data to the DAC registers. Asynchronous active low input. See Table 2 for operation.", 16 CLK (in) "Clock input. Positive edge clocks data into shift register."

## DAC8802IPWG4
designator U?
14-Bit, Dual Channel, Serial Interface, Multiplying DAC, -40 to 85 degC, 16-pin SOP (PW16), Green (RoHS & no Sb/Br); Manufacturer: Texas Instruments; PartNumber: DAC8802IPWG4; DAC Channels: 2; DNL(Max)(+/-LSB): 1; Interface: Serial SPI; Power Consumption(Typ)(mW): 0.025; Resolution(Bits): 14; Settling Time(us): 0.5; SubFamily: Precision DAC (=<10MSPS); DatasheetVersion: SBAS351B; PackageVersion: 4040064-4/G, 02/2011; PackageReference: PW16; PackageDescription: 16-Pin Plastic Small Outline, Body 5 x 4.4 mm, Pitch 0.65 mm; Supplier 1: Digi-Key; Supplier Part Number 1: DAC8802IPWG4-ND; Supplier 2: Farnell; Supplier Part Number 2: 1180102; Supplier 3: Newark; Supplier Part Number 3: 25M8873; Supplier 4: Newark; Supplier Part Number 4: 80K1423; Supplier 5: Mouser; Supplier Part Number 5: 595-DAC8802IPWG4; Eco-Plan: Green (RoHS & no Sb/Br); INL(Max)(+/-LSB): 1; Mounting Technology: Surface Mount; Code_JEDEC: MO-153; ComponentLink1Description: Manufacturer URL; ComponentLink1URL: http://www.ti.com/; ComponentLink2Description: Datasheet; ComponentLink2URL: http://www.ti.com/general/docs/lit/getliterature.tsp?genericPartNumber=DAC8802&fileType=pdf; ComponentLink3Description: Package Specification; ComponentLink3URL: http://www.ti.com/lit/ml/mpds361/mpds361.pdf
footprint TI-PW16_N (SOP, 16-Leads, Body 5x4.4mm, Pitch 0.65mm, IPC Medium Density)
footprint TI-PW16_L (SOP, 16-Leads, Body 5x4.4mm, Pitch 0.65mm, IPC High Density)
footprint TI-PW16_M (SOP, 16-Leads, Body 5x4.4mm, Pitch 0.65mm, IPC Low Density)
pins: 1 RFBA (out) "Establish voltage output for DAC A by connecting to external amplifier output.", 2 VREFA (in) "DAC A Reference voltage input terminal. Establishes DAC A full-scale output voltage. Can be tied to VDD pin.", 3 IOUTA (out) "DAC A Current output.", 4 AGNDA (power) "DAC A Analog ground.", 5 AGNDB (power) "DAC B Analog ground.", 6 IOUTB (out) "DAC B Current output.", 7 VREFB (in) "DAC B Reference voltage input terminal. Establishes DAC B full-scale output voltage. Can be tied to VDD pin.", 8 RFBB (out) "Establish voltage output for DAC B by connecting to external amplifier output.", 9 SDI (in) "Serial data input; data loads directly into the shift register.", 10 ~{RS} (in) "Reset pin; active low input. Input registers and DAC registers are set to all 0s or midscale. Register data = 0x0000 when MSB = 0. Register data = 0x8000 when MSB = 1 for DAC8802.", 11 ~{CS} (in) "Chip-select; active low input. Disables shift register loading when high. Transfers serial register data to input register when C\S\ goes high. Does not affect L\D\A\C\ operation.", 12 DGND (power) "Digital ground.", 13 VDD (power) "Positive power-supply input. Specified range of operation 2.7 V to 5.5 V.", 14 MSB (in) "MSB bit sets output to either 0 or midscale during a RESET pulse (R\S\) or at system power-on. Output equals zero scale when MSB = 0 and midscale when MSB = 1. MSB pin can be permanently tied to ground or VDD.", 15 ~{LDAC} (in) "Load DAC register strobe; level sensitive active low. Transfers all input register data to the DAC registers. Asynchronous active low input. See Table 2 for operation.", 16 CLK (in) "Clock input. Positive edge clocks data into shift register."

## DAC8802IPWR
designator U?
14-Bit, Dual Channel, Serial Interface, Multiplying DAC, -40 to 85 degC, 16-pin SOP (PW16), Green (RoHS & no Sb/Br); Manufacturer: Texas Instruments; PartNumber: DAC8802IPWR; DAC Channels: 2; DNL(Max)(+/-LSB): 1; Interface: Serial SPI; Power Consumption(Typ)(mW): 0.025; Resolution(Bits): 14; Settling Time(us): 0.5; SubFamily: Precision DAC (=<10MSPS); DatasheetVersion: SBAS351B; PackageVersion: 4040064-4/G, 02/2011; PackageReference: PW16; PackageDescription: 16-Pin Plastic Small Outline, Body 5 x 4.4 mm, Pitch 0.65 mm; Supplier 1: Digi-Key; Supplier Part Number 1: DAC8802IPWR-ND; Supplier 2: Newark; Supplier Part Number 2: 71K2663; Supplier 3: Mouser; Supplier Part Number 3: 595-DAC8802IPWR; Eco-Plan: Green (RoHS & no Sb/Br); INL(Max)(+/-LSB): 1; Mounting Technology: Surface Mount; Code_JEDEC: MO-153; ComponentLink1Description: Manufacturer URL; ComponentLink1URL: http://www.ti.com/; ComponentLink2Description: Datasheet; ComponentLink2URL: http://www.ti.com/general/docs/lit/getliterature.tsp?genericPartNumber=DAC8802&fileType=pdf; ComponentLink3Description: Package Specification; ComponentLink3URL: http://www.ti.com/lit/ml/mpds361/mpds361.pdf
footprint TI-PW16_N (SOP, 16-Leads, Body 5x4.4mm, Pitch 0.65mm, IPC Medium Density)
footprint TI-PW16_L (SOP, 16-Leads, Body 5x4.4mm, Pitch 0.65mm, IPC High Density)
footprint TI-PW16_M (SOP, 16-Leads, Body 5x4.4mm, Pitch 0.65mm, IPC Low Density)
pins: 1 RFBA (out) "Establish voltage output for DAC A by connecting to external amplifier output.", 2 VREFA (in) "DAC A Reference voltage input terminal. Establishes DAC A full-scale output voltage. Can be tied to VDD pin.", 3 IOUTA (out) "DAC A Current output.", 4 AGNDA (power) "DAC A Analog ground.", 5 AGNDB (power) "DAC B Analog ground.", 6 IOUTB (out) "DAC B Current output.", 7 VREFB (in) "DAC B Reference voltage input terminal. Establishes DAC B full-scale output voltage. Can be tied to VDD pin.", 8 RFBB (out) "Establish voltage output for DAC B by connecting to external amplifier output.", 9 SDI (in) "Serial data input; data loads directly into the shift register.", 10 ~{RS} (in) "Reset pin; active low input. Input registers and DAC registers are set to all 0s or midscale. Register data = 0x0000 when MSB = 0. Register data = 0x8000 when MSB = 1 for DAC8802.", 11 ~{CS} (in) "Chip-select; active low input. Disables shift register loading when high. Transfers serial register data to input register when C\S\ goes high. Does not affect L\D\A\C\ operation.", 12 DGND (power) "Digital ground.", 13 VDD (power) "Positive power-supply input. Specified range of operation 2.7 V to 5.5 V.", 14 MSB (in) "MSB bit sets output to either 0 or midscale during a RESET pulse (R\S\) or at system power-on. Output equals zero scale when MSB = 0 and midscale when MSB = 1. MSB pin can be permanently tied to ground or VDD.", 15 ~{LDAC} (in) "Load DAC register strobe; level sensitive active low. Transfers all input register data to the DAC registers. Asynchronous active low input. See Table 2 for operation.", 16 CLK (in) "Clock input. Positive edge clocks data into shift register."

## DAC8802IPWRG4
designator U?
14-Bit, Dual Channel, Serial Interface, Multiplying DAC, -40 to 85 degC, 16-pin SOP (PW16), Green (RoHS & no Sb/Br); Manufacturer: Texas Instruments; PartNumber: DAC8802IPWRG4; DAC Channels: 2; DNL(Max)(+/-LSB): 1; Interface: Serial SPI; Power Consumption(Typ)(mW): 0.025; Resolution(Bits): 14; Settling Time(us): 0.5; SubFamily: Precision DAC (=<10MSPS); DatasheetVersion: SBAS351B; PackageVersion: 4040064-4/G, 02/2011; PackageReference: PW16; PackageDescription: 16-Pin Plastic Small Outline, Body 5 x 4.4 mm, Pitch 0.65 mm; Supplier 1: Digi-Key; Supplier Part Number 1: DAC8802IPWRG4-ND; Supplier 2: Mouser; Supplier Part Number 2: 595-DAC8802IPWRG4; Eco-Plan: Green (RoHS & no Sb/Br); INL(Max)(+/-LSB): 1; Mounting Technology: Surface Mount; Code_JEDEC: MO-153; ComponentLink1Description: Manufacturer URL; ComponentLink1URL: http://www.ti.com/; ComponentLink2Description: Datasheet; ComponentLink2URL: http://www.ti.com/general/docs/lit/getliterature.tsp?genericPartNumber=DAC8802&fileType=pdf; ComponentLink3Description: Package Specification; ComponentLink3URL: http://www.ti.com/lit/ml/mpds361/mpds361.pdf
footprint TI-PW16_N (SOP, 16-Leads, Body 5x4.4mm, Pitch 0.65mm, IPC Medium Density)
footprint TI-PW16_L (SOP, 16-Leads, Body 5x4.4mm, Pitch 0.65mm, IPC High Density)
footprint TI-PW16_M (SOP, 16-Leads, Body 5x4.4mm, Pitch 0.65mm, IPC Low Density)
pins: 1 RFBA (out) "Establish voltage output for DAC A by connecting to external amplifier output.", 2 VREFA (in) "DAC A Reference voltage input terminal. Establishes DAC A full-scale output voltage. Can be tied to VDD pin.", 3 IOUTA (out) "DAC A Current output.", 4 AGNDA (power) "DAC A Analog ground.", 5 AGNDB (power) "DAC B Analog ground.", 6 IOUTB (out) "DAC B Current output.", 7 VREFB (in) "DAC B Reference voltage input terminal. Establishes DAC B full-scale output voltage. Can be tied to VDD pin.", 8 RFBB (out) "Establish voltage output for DAC B by connecting to external amplifier output.", 9 SDI (in) "Serial data input; data loads directly into the shift register.", 10 ~{RS} (in) "Reset pin; active low input. Input registers and DAC registers are set to all 0s or midscale. Register data = 0x0000 when MSB = 0. Register data = 0x8000 when MSB = 1 for DAC8802.", 11 ~{CS} (in) "Chip-select; active low input. Disables shift register loading when high. Transfers serial register data to input register when C\S\ goes high. Does not affect L\D\A\C\ operation.", 12 DGND (power) "Digital ground.", 13 VDD (power) "Positive power-supply input. Specified range of operation 2.7 V to 5.5 V.", 14 MSB (in) "MSB bit sets output to either 0 or midscale during a RESET pulse (R\S\) or at system power-on. Output equals zero scale when MSB = 0 and midscale when MSB = 1. MSB pin can be permanently tied to ground or VDD.", 15 ~{LDAC} (in) "Load DAC register strobe; level sensitive active low. Transfers all input register data to the DAC registers. Asynchronous active low input. See Table 2 for operation.", 16 CLK (in) "Clock input. Positive edge clocks data into shift register."

## DAC8803IDBR
designator U?
14-Bit, Quad Channel, Serial Interface, Multiplying DAC, -40 to 85 degC, 28-pin SOP (DB28), Green (RoHS & no Sb/Br); Manufacturer: Texas Instruments; PartNumber: DAC8803IDBR; DAC Channels: 4; DNL(Max)(+/-LSB): 1; Interface: Serial SPI; Resolution(Bits): 14; Settling Time(us): 0.5; SubFamily: Precision DAC (=<10MSPS); DatasheetVersion: SBAS340C; PackageVersion: 4040065/E, 12/2001; PackageReference: DB28; PackageDescription: 28-Pin Plastic Small Outline, Body 10.2 X 5.3 mm, Pitch 0.65 mm; Supplier 1: Digi-Key; Supplier Part Number 1: DAC8803IDBR-ND; Supplier 2: Mouser; Supplier Part Number 2: 595-DAC8803IDBR; Eco-Plan: Green (RoHS & no Sb/Br); INL(Max)(+/-LSB): 1; Mounting Technology: Surface Mount; Code_JEDEC: MO-150; ComponentLink1Description: Manufacturer URL; ComponentLink1URL: http://www.ti.com/; ComponentLink2Description: Datasheet; ComponentLink2URL: http://www.ti.com/general/docs/lit/getliterature.tsp?genericPartNumber=DAC8803&fileType=pdf; ComponentLink3Description: Package Specification; ComponentLink3URL: http://www.ti.com/lit/ml/msso002e/msso002e.pdf
footprint TI-DB28_N (SOP, 28-Leads, Body 10.2x5.3mm, Pitch 0.65mm, IPC Medium Density)
footprint TI-DB28_L (SOP, 28-Leads, Body 10.2x5.3mm, Pitch 0.65mm, IPC High Density)
footprint TI-DB28_M (SOP, 28-Leads, Body 10.2x5.3mm, Pitch 0.65mm, IPC Low Density)
pins: 1 AGNDA (power) "DAC A Analog ground.", 2 IOUTA (out) "DAC A Current output.", 3 VREFA (in) "DAC A Reference voltage input terminal. Establishes DAC full-scale output voltage. Can be tied to VDD.", 4 RFBA (out) "Establish voltage output for DAC A by connecting to external amplifier output.", 5 MSB (in) "MSB Bit set during a reset pulse (RS) or at system power-on if tied to ground or VDD.", 6 ~{RS} (in) "Reset pin, active low. Input register and DAC registers are set to all zeros or half-scale code (8000h) determined by the voltage on the MSB pin. Register data = 8000h when MSB = 1.", 7 VDD (power) "Positive power-supply input. Specified range of operation +2.7 V to +5.5 V.", 8 ~{CS} (in) "Chip select; active low input. Disables shift register loading when high. Transfers shift register data to input register when C\S\/L\D\A\C\ goes high. Does not affect LDAC operation.", 9 CLK (in) "Clock input; positive edge triggered clocks data into shift register", 10 SDI (in) "Serial data input; data loads directly into the shift register.", 11 RFBB (out) "Establish voltage output for DAC B by connecting to external amplifier output.", 12 VREFB (in) "DAC B Reference voltage input terminal. Establishes DAC full-scale output voltage. Can be tied to VDD.", 13 IOUTB (out) "DAC B Current output.", 14 AGNDB (power) "DAC B Analog ground.", 15 AGNDC (power) "DAC C Analog ground.", 16 IOUTC (out) "DAC C Current output.", 17 VREFC (in) "DAC C Reference voltage input terminal. Establishes DAC full-scale output voltage. Can be tied to VDD.", 18 RFBC (out) "Establish voltage output for DAC C by connecting to external amplifier output.", 19 NC "Not connected; leave floating.", 20 SDO (out) "Serial data output; input data loads directly into shift register. Data appears at SDO, 19 clock pulses after input at the SDI pin.", 21 ~{LDAC} (in) "Load DAC register strobe; level sensitive active low. Transfers all input register data to the DAC registers. Asynchronous active low input. See Table 1 for operation.", 22 AGNDF (power) "High current analog force ground.", 23 VSS "No internal connection.", 24 DGND (power) "Digital ground.", 25 RFBD (out) "Establish voltage output for DAC D by connecting to external amplifier output.", 26 VREFD (in) "DAC D Reference voltage input terminal. Establishes DAC full-scale output voltage. Can be tied to VDD.", 27 IOUTD (out) "DAC D Current output.", 28 AGNDD (power) "DAC D Analog ground."